# EAGLE library part PARALLELLA_REV_1_1_FULL (library di_parallella)
Parallella board Rev 1.1, all expansion connectos.
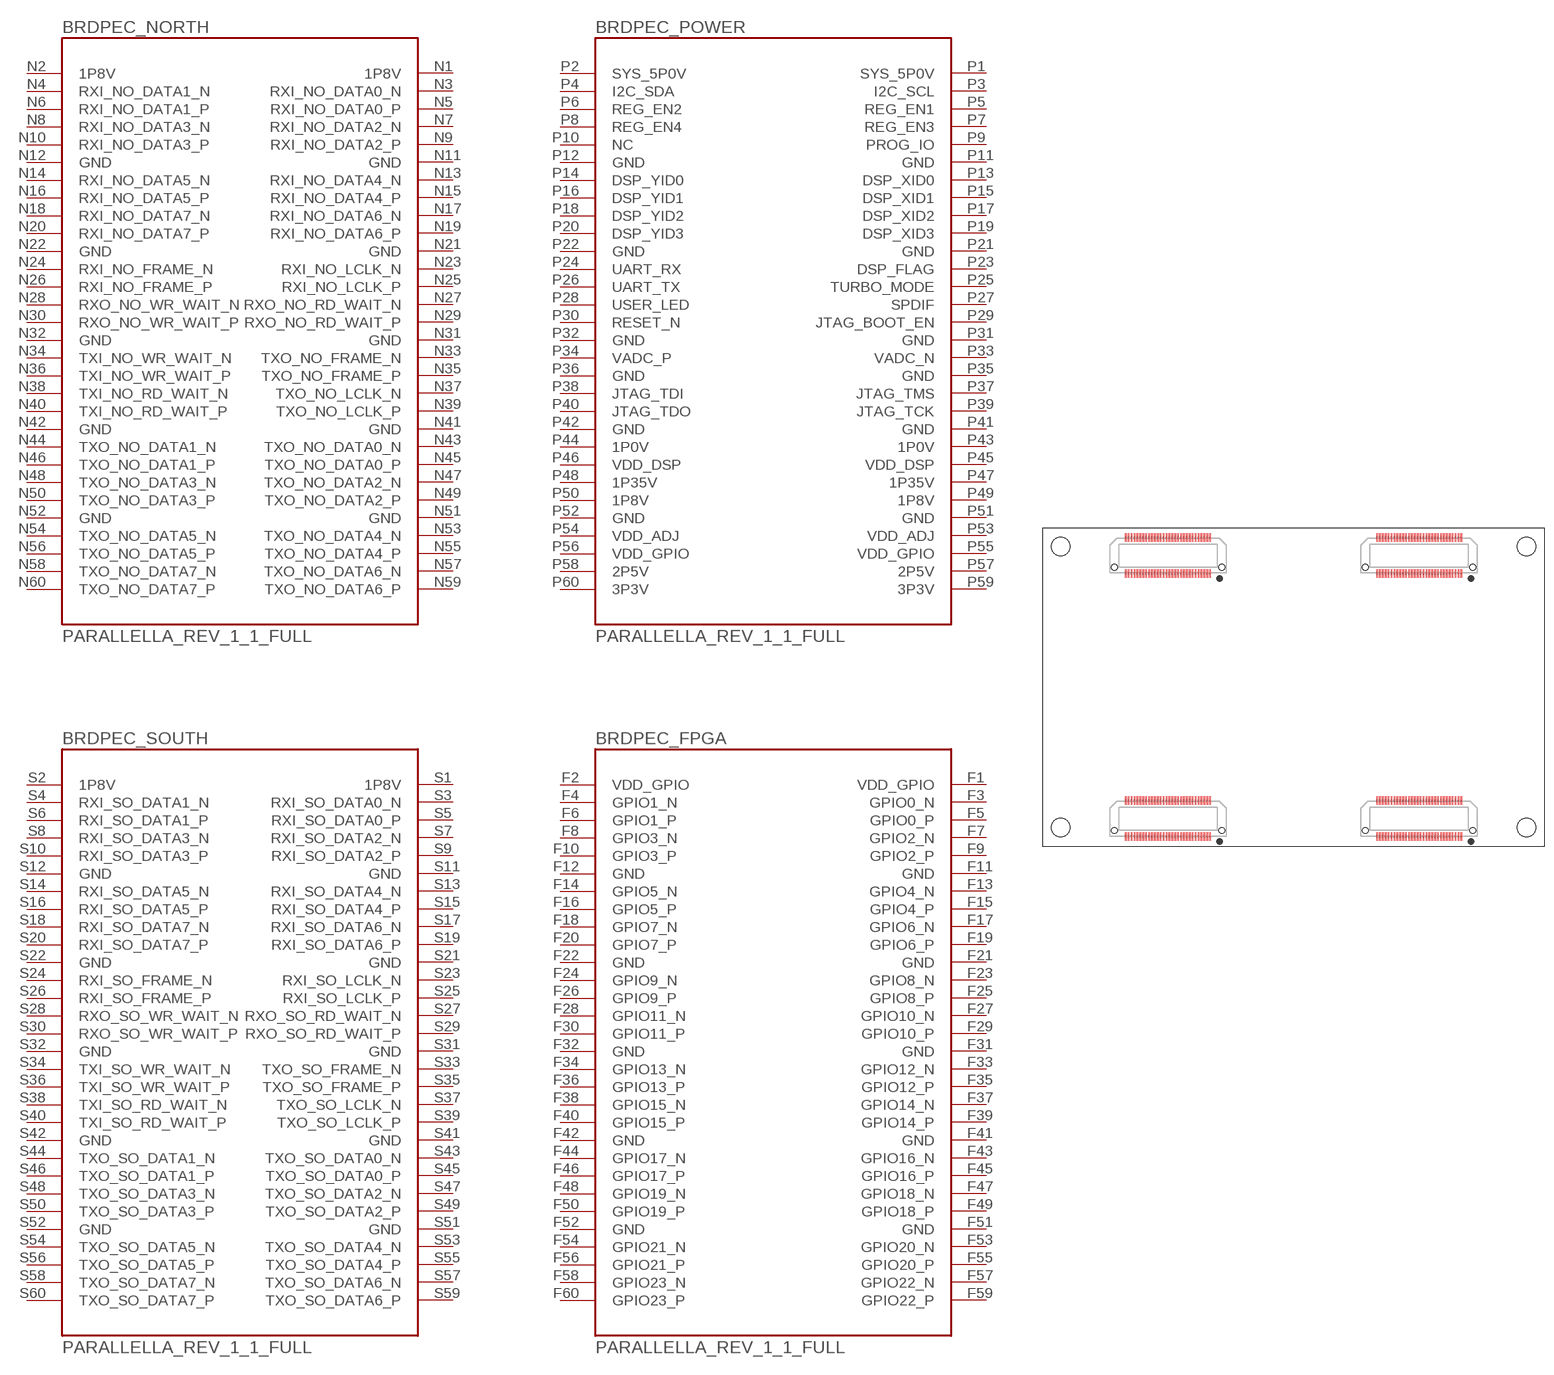
[diagram p0: symbol with the pads of PARALLELLA_REV_1_1_FULL; footprint PARALLELLA_REV_1_1_FULL]

Designator prefix BRD; gates PEC_NORTH=PEC_NORTH_REV_1_1 PEC_SOUTH=PEC_SOUTH_REV_1_1 PEC_POWER=PEC_POWER_REV_1_1 PEC_FPGA=PEC_FPGA_REV_1_1

## PARALLELLA_REV_1_1_FULL4CONN  [PARALLELLA_REV_1_1_FULL]
F1  PEC_FPGA:VDD_GPIO  pas
F2  PEC_FPGA:VDD_GPIO  pas
F3  PEC_FPGA:GPIO0_N
F4  PEC_FPGA:GPIO1_N
F5  PEC_FPGA:GPIO0_P
F6  PEC_FPGA:GPIO1_P
F7  PEC_FPGA:GPIO2_N
F8  PEC_FPGA:GPIO3_N
F9  PEC_FPGA:GPIO2_P
F10  PEC_FPGA:GPIO3_P
F11  PEC_FPGA:GND  pas
F12  PEC_FPGA:GND  pas
F13  PEC_FPGA:GPIO4_N
F14  PEC_FPGA:GPIO5_N
F15  PEC_FPGA:GPIO4_P
F16  PEC_FPGA:GPIO5_P
F17  PEC_FPGA:GPIO6_N
F18  PEC_FPGA:GPIO7_N
F19  PEC_FPGA:GPIO6_P
F20  PEC_FPGA:GPIO7_P
F21  PEC_FPGA:GND  pas
F22  PEC_FPGA:GND  pas
F23  PEC_FPGA:GPIO8_N
F24  PEC_FPGA:GPIO9_N
F25  PEC_FPGA:GPIO8_P
F26  PEC_FPGA:GPIO9_P
F27  PEC_FPGA:GPIO10_N
F28  PEC_FPGA:GPIO11_N
F29  PEC_FPGA:GPIO10_P
F30  PEC_FPGA:GPIO11_P
F31  PEC_FPGA:GND  pas
F32  PEC_FPGA:GND  pas
F33  PEC_FPGA:GPIO12_N
F34  PEC_FPGA:GPIO13_N
F35  PEC_FPGA:GPIO12_P
F36  PEC_FPGA:GPIO13_P
F37  PEC_FPGA:GPIO14_N
F38  PEC_FPGA:GPIO15_N
F39  PEC_FPGA:GPIO14_P
F40  PEC_FPGA:GPIO15_P
F41  PEC_FPGA:GND  pas
F42  PEC_FPGA:GND  pas
F43  PEC_FPGA:GPIO16_N
F44  PEC_FPGA:GPIO17_N
F45  PEC_FPGA:GPIO16_P
F46  PEC_FPGA:GPIO17_P
F47  PEC_FPGA:GPIO18_N
F48  PEC_FPGA:GPIO19_N
F49  PEC_FPGA:GPIO18_P
F50  PEC_FPGA:GPIO19_P
F51  PEC_FPGA:GND  pas
F52  PEC_FPGA:GND  pas
F53  PEC_FPGA:GPIO20_N
F54  PEC_FPGA:GPIO21_N
F55  PEC_FPGA:GPIO20_P
F56  PEC_FPGA:GPIO21_P
F57  PEC_FPGA:GPIO22_N
F58  PEC_FPGA:GPIO23_N
F59  PEC_FPGA:GPIO22_P
F60  PEC_FPGA:GPIO23_P
N1  PEC_NORTH:1P8V  pas
N2  PEC_NORTH:1P8V  pas
N3  PEC_NORTH:RXI_NO_DATA0_N  in
N4  PEC_NORTH:RXI_NO_DATA1_N  in
N5  PEC_NORTH:RXI_NO_DATA0_P  in
N6  PEC_NORTH:RXI_NO_DATA1_P  in
N7  PEC_NORTH:RXI_NO_DATA2_N  in
N8  PEC_NORTH:RXI_NO_DATA3_N  in
N9  PEC_NORTH:RXI_NO_DATA2_P  in
N10  PEC_NORTH:RXI_NO_DATA3_P  in
N11  PEC_NORTH:GND  pas
N12  PEC_NORTH:GND  pas
N13  PEC_NORTH:RXI_NO_DATA4_N  in
N14  PEC_NORTH:RXI_NO_DATA5_N  in
N15  PEC_NORTH:RXI_NO_DATA4_P  in
N16  PEC_NORTH:RXI_NO_DATA5_P  in
N17  PEC_NORTH:RXI_NO_DATA6_N  in
N18  PEC_NORTH:RXI_NO_DATA7_N  in
N19  PEC_NORTH:RXI_NO_DATA6_P  in
N20  PEC_NORTH:RXI_NO_DATA7_P  in
N21  PEC_NORTH:GND  pas
N22  PEC_NORTH:GND  pas
N23  PEC_NORTH:RXI_NO_LCLK_N  in
N24  PEC_NORTH:RXI_NO_FRAME_N  in
N25  PEC_NORTH:RXI_NO_LCLK_P  in
N26  PEC_NORTH:RXI_NO_FRAME_P  in
N27  PEC_NORTH:RXO_NO_RD_WAIT_N  out
N28  PEC_NORTH:RXO_NO_WR_WAIT_N  out
N29  PEC_NORTH:RXO_NO_RD_WAIT_P  out
N30  PEC_NORTH:RXO_NO_WR_WAIT_P  out
N31  PEC_NORTH:GND  pas
N32  PEC_NORTH:GND  pas
N33  PEC_NORTH:TXO_NO_FRAME_N  out
N34  PEC_NORTH:TXI_NO_WR_WAIT_N  in
N35  PEC_NORTH:TXO_NO_FRAME_P  out
N36  PEC_NORTH:TXI_NO_WR_WAIT_P  in
N37  PEC_NORTH:TXO_NO_LCLK_N  out
N38  PEC_NORTH:TXI_NO_RD_WAIT_N  in
N39  PEC_NORTH:TXO_NO_LCLK_P  out
N40  PEC_NORTH:TXI_NO_RD_WAIT_P  in
N41  PEC_NORTH:GND  pas
N42  PEC_NORTH:GND  pas
N43  PEC_NORTH:TXO_NO_DATA0_N  out
N44  PEC_NORTH:TXO_NO_DATA1_N  out
N45  PEC_NORTH:TXO_NO_DATA0_P  out
N46  PEC_NORTH:TXO_NO_DATA1_P  out
N47  PEC_NORTH:TXO_NO_DATA2_N  out
N48  PEC_NORTH:TXO_NO_DATA3_N  out
N49  PEC_NORTH:TXO_NO_DATA2_P  out
N50  PEC_NORTH:TXO_NO_DATA3_P  out
N51  PEC_NORTH:GND  pas
N52  PEC_NORTH:GND  pas
N53  PEC_NORTH:TXO_NO_DATA4_N  out
N54  PEC_NORTH:TXO_NO_DATA5_N  out
N55  PEC_NORTH:TXO_NO_DATA4_P  out
N56  PEC_NORTH:TXO_NO_DATA5_P  out
N57  PEC_NORTH:TXO_NO_DATA6_N  out
N58  PEC_NORTH:TXO_NO_DATA7_N  out
N59  PEC_NORTH:TXO_NO_DATA6_P  out
N60  PEC_NORTH:TXO_NO_DATA7_P  out
P1  PEC_POWER:SYS_5P0V  pas
P2  PEC_POWER:SYS_5P0V  pas
P3  PEC_POWER:I2C_SCL
P4  PEC_POWER:I2C_SDA
P5  PEC_POWER:REG_EN1  in
P6  PEC_POWER:REG_EN2  in
P7  PEC_POWER:REG_EN3  in
P8  PEC_POWER:REG_EN4  in
P9  PEC_POWER:PROG_IO
P10  PEC_POWER:NC  nc
P11  PEC_POWER:GND  pas
P12  PEC_POWER:GND  pas
P13  PEC_POWER:DSP_XID0  in
P14  PEC_POWER:DSP_YID0  in
P15  PEC_POWER:DSP_XID1  in
P16  PEC_POWER:DSP_YID1  in
P17  PEC_POWER:DSP_XID2  in
P18  PEC_POWER:DSP_YID2  in
P19  PEC_POWER:DSP_XID3  in
P20  PEC_POWER:DSP_YID3  in
P21  PEC_POWER:GND  pas
P22  PEC_POWER:GND  pas
P23  PEC_POWER:DSP_FLAG  out
P24  PEC_POWER:UART_RX  in
P25  PEC_POWER:TURBO_MODE  out
P26  PEC_POWER:UART_TX  out
P27  PEC_POWER:SPDIF  out
P28  PEC_POWER:USER_LED  out
P29  PEC_POWER:JTAG_BOOT_EN  in
P30  PEC_POWER:RESET_N  out
P31  PEC_POWER:GND  pas
P32  PEC_POWER:GND  pas
P33  PEC_POWER:VADC_N  in
P34  PEC_POWER:VADC_P  in
P35  PEC_POWER:GND  pas
P36  PEC_POWER:GND  pas
P37  PEC_POWER:JTAG_TMS  in
P38  PEC_POWER:JTAG_TDI  in
P39  PEC_POWER:JTAG_TCK  in
P40  PEC_POWER:JTAG_TDO  out
P41  PEC_POWER:GND  pas
P42  PEC_POWER:GND  pas
P43  PEC_POWER:1P0V  pas
P44  PEC_POWER:1P0V  pas
P45  PEC_POWER:VDD_DSP  pas
P46  PEC_POWER:VDD_DSP  pas
P47  PEC_POWER:1P35V  pas
P48  PEC_POWER:1P35V  pas
P49  PEC_POWER:1P8V  pas
P50  PEC_POWER:1P8V  pas
P51  PEC_POWER:GND  pas
P52  PEC_POWER:GND  pas
P53  PEC_POWER:VDD_ADJ  pas
P54  PEC_POWER:VDD_ADJ  pas
P55  PEC_POWER:VDD_GPIO  pas
P56  PEC_POWER:VDD_GPIO  pas
P57  PEC_POWER:2P5V  pas
P58  PEC_POWER:2P5V  pas
P59  PEC_POWER:3P3V  pas
P60  PEC_POWER:3P3V  pas
S1  PEC_SOUTH:1P8V  pas
S2  PEC_SOUTH:1P8V  pas
S3  PEC_SOUTH:RXI_SO_DATA0_N  in
S4  PEC_SOUTH:RXI_SO_DATA1_N  in
S5  PEC_SOUTH:RXI_SO_DATA0_P  in
S6  PEC_SOUTH:RXI_SO_DATA1_P  in
S7  PEC_SOUTH:RXI_SO_DATA2_N  in
S8  PEC_SOUTH:RXI_SO_DATA3_N  in
S9  PEC_SOUTH:RXI_SO_DATA2_P  in
S10  PEC_SOUTH:RXI_SO_DATA3_P  in
S11  PEC_SOUTH:GND  pas
S12  PEC_SOUTH:GND  pas
S13  PEC_SOUTH:RXI_SO_DATA4_N  in
S14  PEC_SOUTH:RXI_SO_DATA5_N  in
S15  PEC_SOUTH:RXI_SO_DATA4_P  in
S16  PEC_SOUTH:RXI_SO_DATA5_P  in
S17  PEC_SOUTH:RXI_SO_DATA6_N  in
S18  PEC_SOUTH:RXI_SO_DATA7_N  in
S19  PEC_SOUTH:RXI_SO_DATA6_P  in
S20  PEC_SOUTH:RXI_SO_DATA7_P  in
S21  PEC_SOUTH:GND  pas
S22  PEC_SOUTH:GND  pas
S23  PEC_SOUTH:RXI_SO_LCLK_N  in
S24  PEC_SOUTH:RXI_SO_FRAME_N  in
S25  PEC_SOUTH:RXI_SO_LCLK_P  in
S26  PEC_SOUTH:RXI_SO_FRAME_P  in
S27  PEC_SOUTH:RXO_SO_RD_WAIT_N  out
S28  PEC_SOUTH:RXO_SO_WR_WAIT_N  out
S29  PEC_SOUTH:RXO_SO_RD_WAIT_P  out
S30  PEC_SOUTH:RXO_SO_WR_WAIT_P  out
S31  PEC_SOUTH:GND  pas
S32  PEC_SOUTH:GND  pas
S33  PEC_SOUTH:TXO_SO_FRAME_N  out
S34  PEC_SOUTH:TXI_SO_WR_WAIT_N  in
S35  PEC_SOUTH:TXO_SO_FRAME_P  out
S36  PEC_SOUTH:TXI_SO_WR_WAIT_P  in
S37  PEC_SOUTH:TXO_SO_LCLK_N  out
S38  PEC_SOUTH:TXI_SO_RD_WAIT_N  in
S39  PEC_SOUTH:TXO_SO_LCLK_P  out
S40  PEC_SOUTH:TXI_SO_RD_WAIT_P  in
S41  PEC_SOUTH:GND  pas
S42  PEC_SOUTH:GND  pas
S43  PEC_SOUTH:TXO_SO_DATA0_N  out
S44  PEC_SOUTH:TXO_SO_DATA1_N  out
S45  PEC_SOUTH:TXO_SO_DATA0_P  out
S46  PEC_SOUTH:TXO_SO_DATA1_P  out
S47  PEC_SOUTH:TXO_SO_DATA2_N  out
S48  PEC_SOUTH:TXO_SO_DATA3_N  out
S49  PEC_SOUTH:TXO_SO_DATA2_P  out
S50  PEC_SOUTH:TXO_SO_DATA3_P  out
S51  PEC_SOUTH:GND  pas
S52  PEC_SOUTH:GND  pas
S53  PEC_SOUTH:TXO_SO_DATA4_N  out
S54  PEC_SOUTH:TXO_SO_DATA5_N  out
S55  PEC_SOUTH:TXO_SO_DATA4_P  out
S56  PEC_SOUTH:TXO_SO_DATA5_P  out
S57  PEC_SOUTH:TXO_SO_DATA6_N  out
S58  PEC_SOUTH:TXO_SO_DATA7_N  out
S59  PEC_SOUTH:TXO_SO_DATA6_P  out
S60  PEC_SOUTH:TXO_SO_DATA7_P  out

## Footprint PARALLELLA_REV_1_1_FULL (pad centres in mm)
Expansion card footprint for Parallella board revision 1.1 http://www.parallella.org/docs/parallella_manual.pdf
smd 0.305 x 1.448: F1 28.84,1.613; F2 28.84,7.785; F3 28.34,1.613; F4 28.34,7.785; F5 27.84,1.613; F6 27.84,7.785; F7 27.34,1.613; F8 27.34,7.785; F9 26.84,1.613; F10 26.84,7.785; F11 26.34,1.613; F12 26.34,7.785; F13 25.84,1.613; F14 25.84,7.785; F15 25.34,1.613; F16 25.34,7.785; F17 24.84,1.613; F18 24.84,7.785; F19 24.34,1.613; F20 24.34,7.785; F21 23.84,1.613; F22 23.84,7.785; F23 23.34,1.613; F24 23.34,7.785; F25 22.84,1.613; F26 22.84,7.785; F27 22.34,1.613; F28 22.34,7.785; F29 21.84,1.613; F30 21.84,7.785; F31 21.34,1.613; F32 21.34,7.785; F33 20.84,1.613; F34 20.84,7.785; F35 20.34,1.613; F36 20.34,7.785; F37 19.84,1.613; F38 19.84,7.785; F39 19.34,1.613; F40 19.34,7.785; F41 18.84,1.613; F42 18.84,7.785; F43 18.34,1.613; F44 18.34,7.785; F45 17.84,1.613; F46 17.84,7.785; F47 17.34,1.613; F48 17.34,7.785; F49 16.84,1.613; F50 16.84,7.785; F51 16.34,1.613; F52 16.34,7.785; F53 15.84,1.613; F54 15.84,7.785; F55 15.34,1.613; F56 15.34,7.785; F57 14.84,1.613; F58 14.84,7.785; F59 14.34,1.613; F60 14.34,7.785; N1 72.02,1.613; N2 72.02,7.785; N3 71.52,1.613; N4 71.52,7.785; N5 71.02,1.613; N6 71.02,7.785; N7 70.52,1.613; N8 70.52,7.785; N9 70.02,1.613; N10 70.02,7.785; N11 69.52,1.613; N12 69.52,7.785; N13 69.02,1.613; N14 69.02,7.785; N15 68.52,1.613; N16 68.52,7.785; N17 68.02,1.613; N18 68.02,7.785; N19 67.52,1.613; N20 67.52,7.785; N21 67.02,1.613; N22 67.02,7.785; N23 66.52,1.613; N24 66.52,7.785; N25 66.02,1.613; N26 66.02,7.785; N27 65.52,1.613; N28 65.52,7.785; N29 65.02,1.613; N30 65.02,7.785; N31 64.52,1.613; N32 64.52,7.785; N33 64.02,1.613; N34 64.02,7.785; N35 63.52,1.613; N36 63.52,7.785; N37 63.02,1.613; N38 63.02,7.785; N39 62.52,1.613; N40 62.52,7.785; N41 62.02,1.613; N42 62.02,7.785; N43 61.52,1.613; N44 61.52,7.785; N45 61.02,1.613; N46 61.02,7.785; N47 60.52,1.613; N48 60.52,7.785; N49 60.02,1.613; N50 60.02,7.785; N51 59.52,1.613; N52 59.52,7.785; N53 59.02,1.613; N54 59.02,7.785; N55 58.52,1.613; N56 58.52,7.785; N57 58.02,1.613; N58 58.02,7.785; N59 57.52,1.613; N60 57.52,7.785; P1 28.84,46.825; P2 28.84,52.997; P3 28.34,46.825; P4 28.34,52.997; P5 27.84,46.825; P6 27.84,52.997; P7 27.34,46.825; P8 27.34,52.997; P9 26.84,46.825; P10 26.84,52.997; P11 26.34,46.825; P12 26.34,52.997; P13 25.84,46.825; P14 25.84,52.997; P15 25.34,46.825; P16 25.34,52.997; P17 24.84,46.825; P18 24.84,52.997; P19 24.34,46.825; P20 24.34,52.997; P21 23.84,46.825; P22 23.84,52.997; P23 23.34,46.825; P24 23.34,52.997; P25 22.84,46.825; P26 22.84,52.997; P27 22.34,46.825; P28 22.34,52.997; P29 21.84,46.825; P30 21.84,52.997; P31 21.34,46.825; P32 21.34,52.997; P33 20.84,46.825; P34 20.84,52.997; P35 20.34,46.825; P36 20.34,52.997; P37 19.84,46.825; P38 19.84,52.997; P39 19.34,46.825; P40 19.34,52.997; P41 18.84,46.825; P42 18.84,52.997; P43 18.34,46.825; P44 18.34,52.997; P45 17.84,46.825; P46 17.84,52.997; P47 17.34,46.825; P48 17.34,52.997; P49 16.84,46.825; P50 16.84,52.997; P51 16.34,46.825; P52 16.34,52.997; P53 15.84,46.825; P54 15.84,52.997; P55 15.34,46.825; P56 15.34,52.997; P57 14.84,46.825; P58 14.84,52.997; P59 14.34,46.825; P60 14.34,52.997; S1 72.02,46.825; S2 72.02,52.997; S3 71.52,46.825; S4 71.52,52.997; S5 71.02,46.825; S6 71.02,52.997; S7 70.52,46.825; S8 70.52,52.997; S9 70.02,46.825; S10 70.02,52.997; S11 69.52,46.825; S12 69.52,52.997; S13 69.02,46.825; S14 69.02,52.997; S15 68.52,46.825; S16 68.52,52.997; S17 68.02,46.825; S18 68.02,52.997; S19 67.52,46.825; S20 67.52,52.997; S21 67.02,46.825; S22 67.02,52.997; S23 66.52,46.825; S24 66.52,52.997; S25 66.02,46.825; S26 66.02,52.997; S27 65.52,46.825; S28 65.52,52.997; S29 65.02,46.825; S30 65.02,52.997; S31 64.52,46.825; S32 64.52,52.997; S33 64.02,46.825; S34 64.02,52.997; S35 63.52,46.825; S36 63.52,52.997; S37 63.02,46.825; S38 63.02,52.997; S39 62.52,46.825; S40 62.52,52.997; S41 62.02,46.825; S42 62.02,52.997; S43 61.52,46.825; S44 61.52,52.997; S45 61.02,46.825; S46 61.02,52.997; S47 60.52,46.825; S48 60.52,52.997; S49 60.02,46.825; S50 60.02,52.997; S51 59.52,46.825; S52 59.52,52.997; S53 59.02,46.825; S54 59.02,52.997; S55 58.52,46.825; S56 58.52,52.997; S57 58.02,46.825; S58 58.02,52.997; S59 57.52,46.825; S60 57.52,52.997
hole 3.175 at 3.175,3.175
hole 3.175 at 3.175,51.435
hole 3.175 at 83.185,51.435
hole 3.175 at 83.185,3.175
hole 1.016 at 30.836,2.667
hole 1.016 at 12.344,2.667
hole 1.016 at 30.836,47.879
hole 1.016 at 12.344,47.879
hole 1.016 at 74.016,2.667
hole 1.016 at 55.524,2.667
hole 1.016 at 74.016,47.879
hole 1.016 at 55.524,47.879